# EAGLE library part RADIOMETRIX_LMT2 (library Ava)
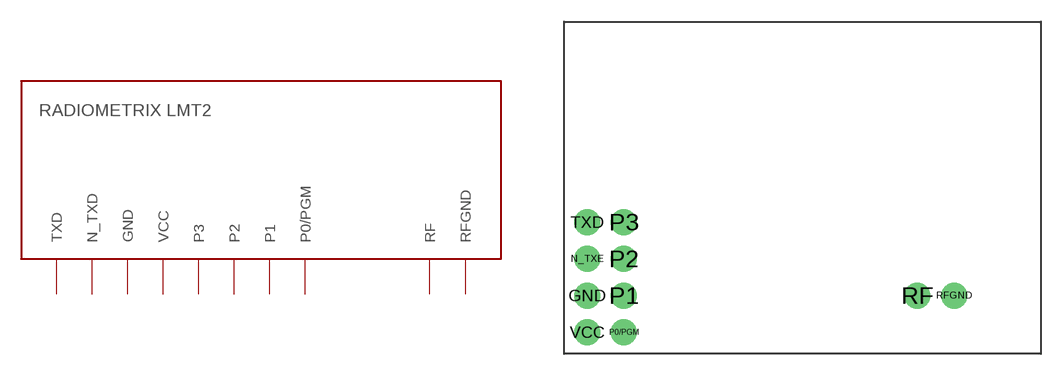
[diagram p19: symbol with the pads of RADIOMETRIX-LMT2; footprint RADIOMETRIX-LMT2]

Designator prefix -

## RADIOMETRIX_LMT2  [RADIOMETRIX-LMT2]
GND  GND  pwr
N_TXE  N_TXD
P0/PGM  P0/PGM
P1  P1
P2  P2
P3  P3
RF  RF
RFGND  RFGND
TXD  TXD
VCC  VCC  pwr

## Footprint RADIOMETRIX-LMT2 (pad centres in mm)
drill 1.2: GND -14.91,-7.39; N_TXE -14.91,-4.85; P0/PGM -12.37,-9.93; P1 -12.37,-7.39; P2 -12.37,-4.85; P3 -12.37,-2.31; RF 7.95,-7.39; RFGND 10.49,-7.39; TXD -14.91,-2.31; VCC -14.91,-9.93